# Altium integrated library TOOLS - TESTPOINT.IntLib: 1 symbol
Pins are listed as number, name and electrical type; pins without a type are passive.

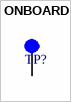
[diagram p0: symbol ONBOARD]

## ONBOARD
designator TP?  (value not drawn)  (no BOM)
On Board Test Point - NO BOM
footprint ON_BOARD_TP
pins: 1 TP